# EAGLE library part LTS (library LEM)
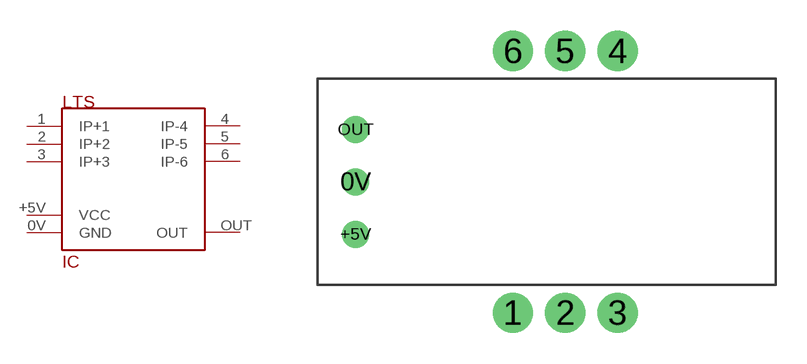
[diagram p0: symbol with the pads of LTS; footprint LTS]

Designator prefix IC

## LTS  [LTS]
0V  GND  pwr
1  IP+1
2  IP+2
3  IP+3
4  IP-4
5  IP-5
6  IP-6
+5V  VCC  pwr
OUT  OUT  out

## Footprint LTS (pad centres in mm)
drill 0.8 round: 0V -10.16,0; +5V -10.16,-2.54; OUT -10.16,2.54
drill 1.3 round: 1 -2.54,-6.35; 2 0,-6.35; 3 2.54,-6.35; 4 2.54,6.35; 5 0,6.35; 6 -2.54,6.35